# EAGLE library part MAX3237EIDB (library lib_stankus)
TI MAX3237EIDB RS232 transceiver Farnell #1544013
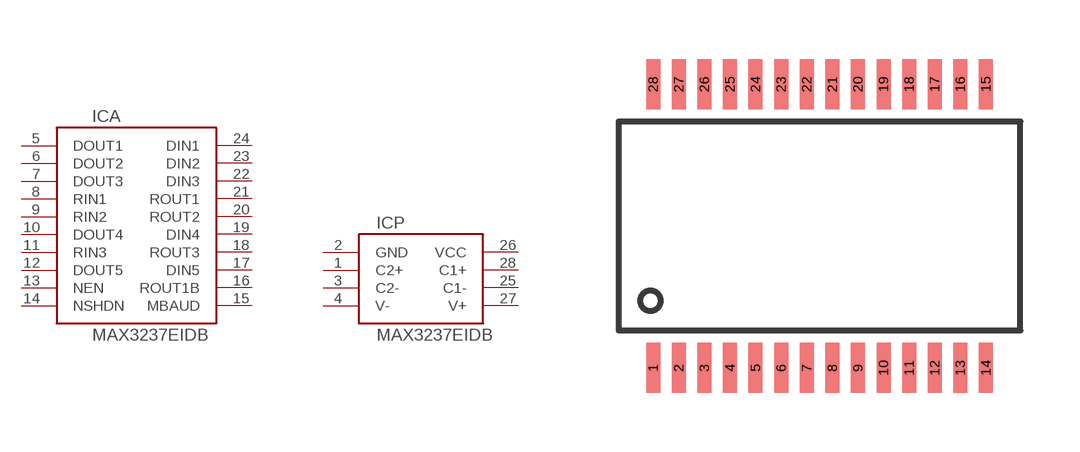
[diagram p6: symbol with the pads of SSOP28; footprint SSOP28]

Designator prefix IC; gates A=MAX3237EIDB_IO P=MAX3237EIDB_PWR

## MAX3237EIDB-SSOP28  [SSOP28]
1  P:C2+  pas
2  P:GND  pas
3  P:C2-  pas
4  P:V-  pas
5  A:DOUT1  pas
6  A:DOUT2  pas
7  A:DOUT3  pas
8  A:RIN1  pas
9  A:RIN2  pas
10  A:DOUT4  pas
11  A:RIN3  pas
12  A:DOUT5  pas
13  A:NEN  pas
14  A:NSHDN  pas
15  A:MBAUD  pas
16  A:ROUT1B  pas
17  A:DIN5  pas
18  A:ROUT3  pas
19  A:DIN4  pas
20  A:ROUT2  pas
21  A:ROUT1  pas
22  A:DIN3  pas
23  A:DIN2  pas
24  A:DIN1  pas
25  P:C1-  pas
26  P:VCC  pas
27  P:V+  pas
28  P:C1+  pas

## Footprint SSOP28 (pad centres in mm)
SSOP28
smd 0.356 x 1.27: 1 -4.225,-3.6; 2 -3.575,-3.6; 3 -2.925,-3.6; 4 -2.275,-3.6; 5 -1.625,-3.6; 6 -0.975,-3.6; 7 -0.325,-3.6; 8 0.325,-3.6; 9 0.975,-3.6; 10 1.625,-3.6; 11 2.275,-3.6; 12 2.925,-3.6; 13 3.575,-3.6; 14 4.225,-3.6; 15 4.225,3.6; 16 3.575,3.6; 17 2.925,3.6; 18 2.275,3.6; 19 1.625,3.6; 20 0.975,3.6; 21 0.325,3.6; 22 -0.325,3.6; 23 -0.975,3.6; 24 -1.625,3.6; 25 -2.275,3.6; 26 -2.925,3.6; 27 -3.575,3.6; 28 -4.225,3.6